# Altium schematic symbol library CX3225SA40000D0PTWCC.SchLib: 2 symbols
Pins are listed as number, name and electrical type; pins without a type are passive.

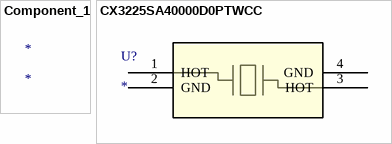
[diagram p0: symbols Component_1 to CX3225SA40000D0PTWCC]

## Component_1
designator *

## CX3225SA40000D0PTWCC
designator U?
No Description Available; Mfr_Name: KYOCERA AVX; RefDes: RefDes; Type: Type
footprint SON4_CX3225SA40000D0PTWCC_KYO
pins: 1 HOT, 2 GND, 3 HOT, 4 GND